# EAGLE library part AD4940-1 (library AnalogDevices)
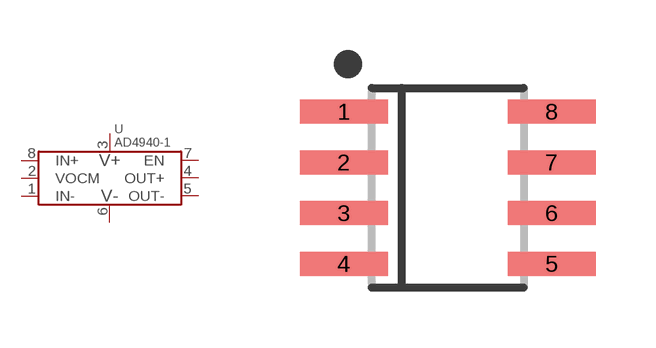
[diagram p8: symbol with the pads of SOIC-8; footprint SOIC-8]

Designator prefix U

## AD4940-1ARZ  [SOIC-8]
1  IN-
2  VOCM
3  VS+
4  OUT+
5  OUT-
6  VS-
7  EN
8  IN+

## Footprint SOIC-8 (pad centres in mm)
smd 2.2 x 0.6: 1 -2.6,1.905; 2 -2.6,0.635; 3 -2.6,-0.635; 4 -2.6,-1.905; 5 2.6,-1.905; 6 2.6,-0.635; 7 2.6,0.635; 8 2.6,1.905